# Altium footprint library SG__PCB_Unsorted.PcbLib: 113 footprints (part 6 of 8)
Each footprint in its own frame and in the unit in brackets; x right, y up, seen from the top. Pads: shape width x height; smd on the part's side, far side on the other; paste and mask are expansions set on the pad; w line width, h text height; cw(c..) or ccw(c..) is an arc to the next point about the centre after c.
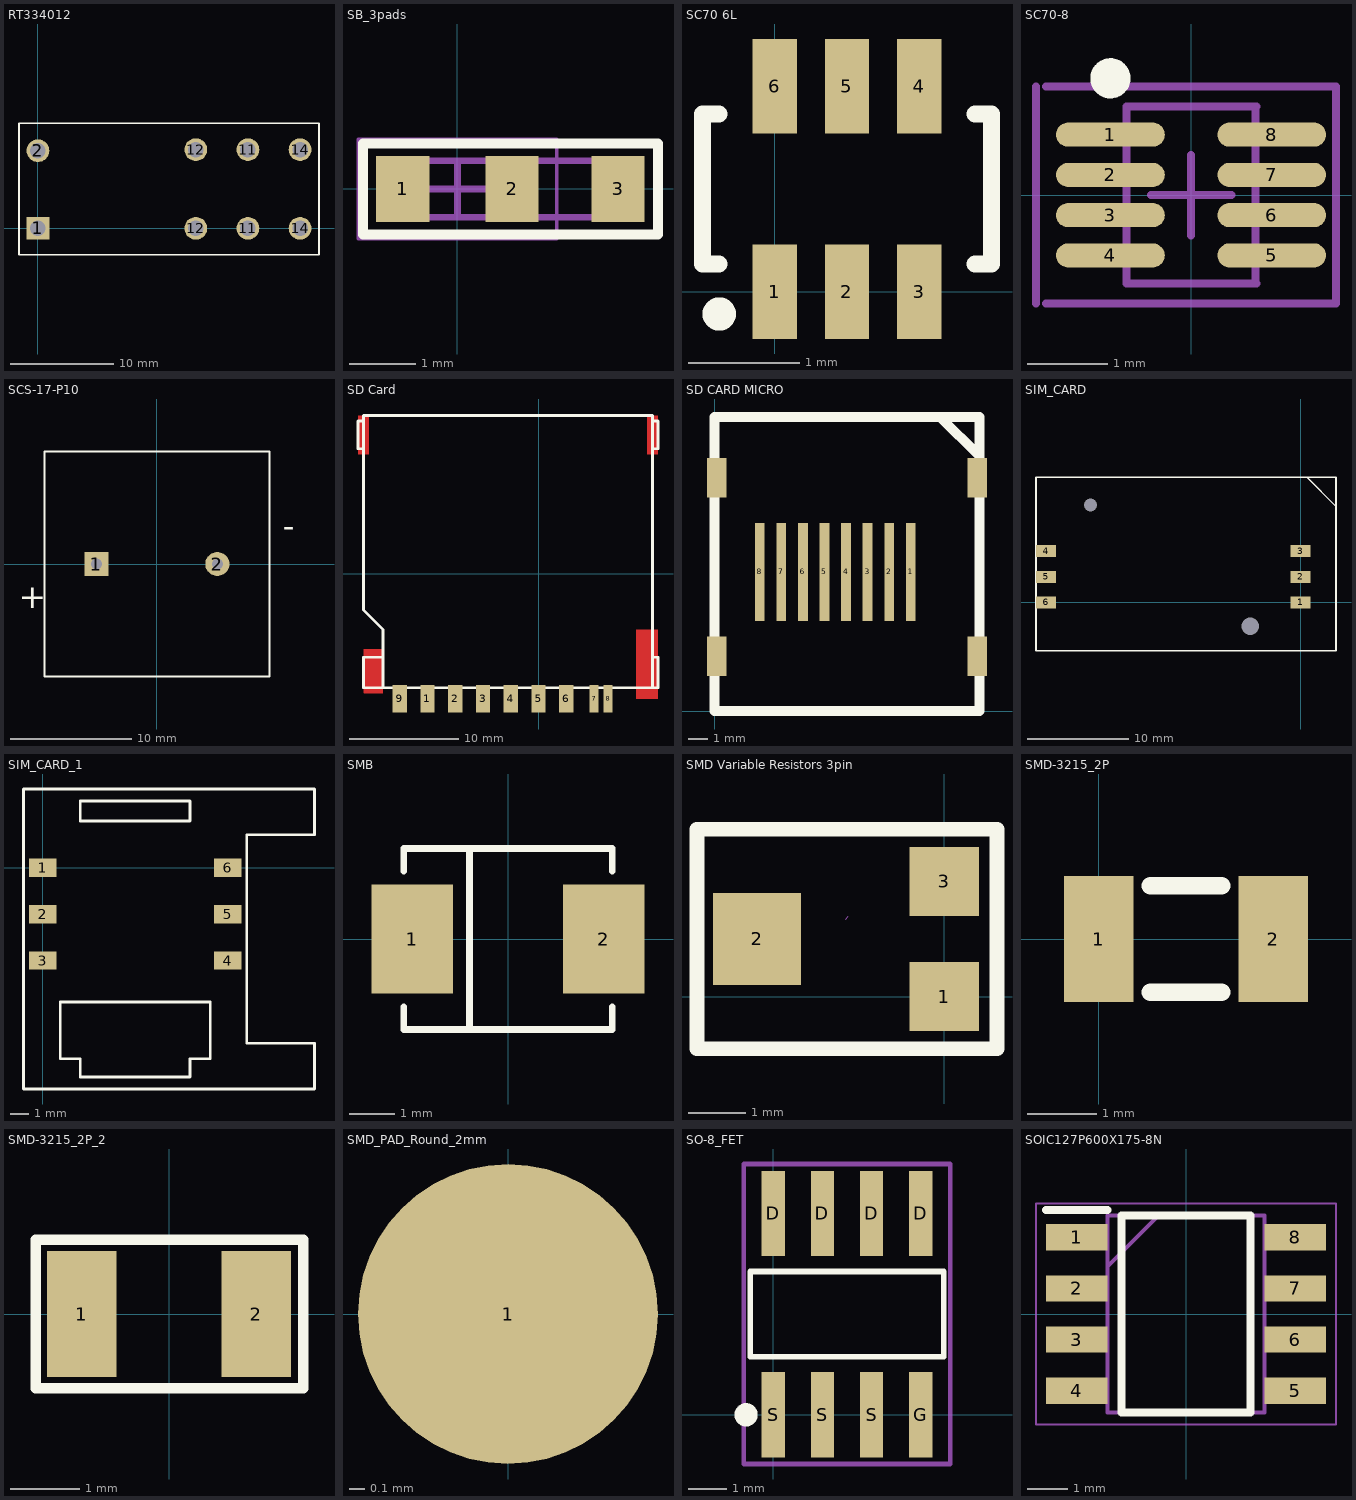
[diagram p5: the footprints below, top view; thin cyan lines are the x and y axes]

## RT334012 [mm]
pads (8):
  rect 2.2x2.2 hole 1.5 mask+0.05: 1(0,0)
  round 2.2 hole 1.5 mask+0.05: 2(0,7.5) 11(20.3,0) 11(20.3,7.6) 12(15.26,0) 12(15.26,7.6) 14(25.34,0) 14(25.34,7.6)
Top Overlay:
  lines w0.15: -1.83,-2.55 27.17,-2.55 27.17,10.15 -1.83,10.15 -1.83,-2.55

## SB_3pads [mm] "SMD Switch on 3 pads"
height 0.01
pads (3):
  rect 0.8x1 smd: 1(-0.825,0) 2(0.825,0) 3(2.425,0)
Top Overlay:
  lines w0.152: -1.422,-0.686 3.025,-0.686 3.025,0.686 -1.422,0.686 -1.422,-0.686
Assembly Top:
  lines w0.1: 0.8,-0.425 0.8,0.425 ; 2.425,-0.425 -0.8,-0.425 -0.8,0.425 2.425,0.425
Courtyard Top:
  lines w0.05: -1.5,-0.75 1.5,-0.75 1.5,0.75 -1.5,0.75 -1.5,-0.75
  lines w0.1: -0.425,0 0.425,0 ; 0,-0.425 0,0.425
3D body "CAPC1608X09N.step": height 0.9, standoff 0, extent -0.8,-0.425 0.8,0.425

## SC70 6L [mm]
pads (6):
  rect 0.4x0.85 smd mask+0.05: 1(0,0) 2(0.65,0) 3(1.3,0) 4(1.3,1.85) 5(0.65,1.85) 6(0,1.85)
Top Overlay:
  circle w0.2: c-0.5,-0.2 r0.05
  lines w0.15: -0.5,0.25 -0.65,0.25 -0.65,1.6 -0.5,1.6 ; 1.8,0.25 1.95,0.25 1.95,1.6 1.8,1.6

## SC70-8 [mm]
height 1
pads (8):
  oval 1.35x0.3 smd: 1(-1.002,0.75) 2(-1.002,0.25) 3(-1.002,-0.25) 4(-1.002,-0.75) 5(1.002,-0.75) 6(1.002,-0.25) 7(1.002,0.25) 8(1.002,0.75)
Top Overlay:
  circle w0.25: c-1.002,1.45 r0.125
Mechanical 13:
  lines w0.1: -0.802,-1.1 -0.802,1.1 ; -0.787,-1.1 0.813,-1.1 ; -0.787,1.1 0.813,1.1 ; 0.802,-1.1 0.802,1.1
Mechanical 15:
  lines w0.1: -1.927,-1.35 -1.927,1.35 ; -1.8,-1.35 1.8,-1.35 1.8,1.35 -1.8,1.35 ; -0.5,0 0.5,0 ; 0,-0.5 0,0.5
3D body: height 1, standoff 0.05, extent -0.675,-1.1 0.675,1.1

## SCS-17-P10 [mm]
pads (2):
  rect 2x2 hole 0.9 mask+0.05: 1(-5,0)
  round 2 hole 0.9 mask+0.05: 2(5,0)
Top Overlay:
  lines w0.15: -9.3,-9.3 -9.3,9.3 9.3,9.3 9.3,-9.3 -9.3,-9.3
  text "+" at -11.4,-3.65 h2
  text "-" at 11.4,3.65 h2

## SD Card [mm]
pads (9):
  rect 1.3x2.5 smd: 1(-10.16,-11.43) 2(-7.62,-11.43) 3(-5.08,-11.43) 4(-2.54,-11.43) 5(0,-11.43) 6(2.54,-11.43) 9(-12.7,-11.43)
  rect 0.8x2.5 smd: 7(5.08,-11.43) 8(6.35,-11.43)
Top Layer:
  rectangle: -16.002,-10.922 -14.224,-6.858
  rectangle: -16.51,10.922 -15.494,14.478
  rectangle: 9.906,10.922 10.922,14.478
  rectangle: 8.89,-11.43 10.922,-5.08
Top Overlay:
  lines w0.254: -16.002,11.43 -16.51,11.43 -16.51,13.716 -16.51,13.97 -16.256,13.97 -16.002,13.97 ; -14.224,-7.62 -16.002,-7.62 -16.002,-10.414 -14.224,-10.414 ; 10.414,-7.62 10.922,-7.62 10.922,-10.414 10.414,-10.414 ; 10.414,11.43 10.922,11.43 10.922,13.97 10.414,13.97 ; -14.224,-10.414 10.414,-10.414 ; -14.224,-10.414 -14.224,-5.08 -16.002,-3.302 -16.002,14.478 10.414,14.478 10.414,-10.414
3D body "SD_slot.stp": height 3, standoff -1, extent -16.594,-11.938 11.006,14.562

## SD CARD MICRO [mm]
height 0.2
pads (12):
  rect 0.5x5 smd: 1(10,7.1) 2(8.9,7.1) 3(7.8,7.1) 4(6.7,7.1) 5(5.6,7.1) 6(4.5,7.1) 7(3.4,7.1) 8(2.3,7.1)
  rect 1x2 smd: ""(0.1,2.8) ""(0.1,11.9) ""(13.4,2.8) ""(13.4,11.9)
Top Overlay:
  lines w0.5: 11.5,15 13.5,13 ; 0,0 0,15 13.5,15 13.5,0 0,0
3D body: height 2, standoff 0.2, extent 0,0 13.5,15

## SIM_CARD [mm]
pads (8):
  round 0 hole 1.3: 0(-20.8,9.65)
  round 0 hole 1.75: 0(-5,-2.35)
  rect 2x1.2 smd mask+0.05: 1(0,0) 2(0,2.54) 3(0,5.08) 4(-25.2,5.08) 5(-25.2,2.54) 6(-25.2,0)
Top Overlay:
  lines w0.15: 0.6,12.41 3.5,9.51 3.5,9.5 ; -26.2,-4.79 3.5,-4.79 3.5,3.81 3.5,12.41 -26.2,12.41 -26.2,3.81 -26.2,-4.79

## SIM_CARD_1 [mm]
pads (6):
  rect 1.5x1 smd mask+0.05: 1(0,0) 2(0,-2.54) 3(0,-5.08) 4(10.1,-5.08) 5(10.1,-2.54) 6(10.1,0)
Top Overlay:
  lines w0.15: -1.05,-12.1 -1.05,4.3 14.85,4.3 14.85,1.8 11.15,1.8 11.15,-9.6 14.85,-9.6 14.85,-12.1 -1.05,-12.1 ; 0.95,-10.45 2.05,-10.45 2.05,-11.45 8.05,-11.45 8.05,-10.45 9.15,-10.45 9.15,-7.35 0.95,-7.35 0.95,-10.45 ; 2.05,2.55 2.05,3.65 8.05,3.65 8.05,2.55 2.05,2.55

## SMB [mm]
height 1.3
pads (2):
  rect 1.8x2.4 smd mask+0.05: 1(-2.11,0) 2(2.11,0)
Top Overlay:
  lines w0.15: -2.3,-1.5 -2.3,-2 2.3,-2 2.3,-1.5 ; -2.3,1.5 -2.3,2 2.3,2 2.3,1.5 ; -0.85,-2 -0.85,2
3D body "SMB.STEP": height 2.3, standoff 0, extent -2.7,-1.8 2.7,1.8

## SMD Variable Resistors 3pin [mm]
height 2
pads (3):
  rect 1.2x1.2 smd: 1(0,0) 3(0,2)
  rect 1.524x1.6 smd: 2(-3.25,1)
Top Overlay:
  lines w0.254: -4.292,-0.905 -4.292,-0.016 -4.292,2.905 0.915,2.905 0.915,-0.905 -4.292,-0.905
Mechanical 15:
  lines w0.003: -1.714,1.343 -1.663,1.393

## SMD-3215_2P [mm] "SMD CRYSTAL RESONATORS 32.768KHZ"
height 1
pads (2):
  rect 1x1.8 smd: 1(0,0) 2(2.5,0)
Top Overlay:
  lines w0.254: 0.742,-0.762 1.758,-0.762 ; 0.742,0.762 1.758,0.762

## SMD-3215_2P_2 [mm] "SMD CRYSTAL RESONATORS 32.768KHZ"
height 1
pads (2):
  rect 1x1.8 smd: 1(-1.25,0) 2(1.25,0)
Top Overlay:
  lines w0.152: -1.91,-1.067 -0.869,-1.067 1.925,-1.067 1.925,1.067 -1.91,1.067 -1.91,-1.067

## SMD_PAD_Round_2mm [mm]
pads (1):
  round 2 smd: 1(0,0)
3D body: height 0.1, standoff 0, extent -1,-1 1,1

## SO-8_FET [mm] "Small Outline; 8 Leads; Body Width 3.9 mm; Pitch 1.27 mm"
height 1.75
pads (8):
  rect 0.6x2.2 smd mask+0.05: D(0,5.2) D(1.27,5.2) D(2.54,5.2) D(3.81,5.2) G(3.81,0) S(0,0) S(1.27,0) S(2.54,0)
Top Overlay:
  circle w0.3: c-0.7,0 r0.15
  lines w0.15: -0.595,1.5 -0.595,3.7 4.405,3.7 4.405,1.5 -0.595,1.5
Mechanical 15:
  lines w0.127: -0.762,-1.27 -0.762,6.477 4.572,6.477 4.572,-1.27 -0.762,-1.27
3D body "so8.stp": height 1.73, standoff -0.04, extent -0.545,-0.468 4.345,5.668

## SOIC127P600X175-8N [mm]
pads (8):
  rect 1.525x0.65 smd: 1(-2.712,1.905) 2(-2.712,0.635) 3(-2.712,-0.635) 4(-2.712,-1.905) 5(2.712,-1.905) 6(2.712,-0.635) 7(2.712,0.635) 8(2.712,1.905)
Top Overlay:
  lines w0.2: -3.475,2.58 -1.95,2.58 ; -1.6,-2.45 1.6,-2.45 1.6,2.45 -1.6,2.45 -1.6,-2.45
Mechanical 13:
  lines w0.1: -1.95,1.18 -0.68,2.45 ; -1.95,-2.45 1.95,-2.45 1.95,2.45 -1.95,2.45 -1.95,-2.45
Mechanical 15:
  lines w0.05: -3.725,-2.75 3.725,-2.75 3.725,2.75 -3.725,2.75 -3.725,-2.75
3D body "NE555DR.stp": height 1.75, standoff 0, extent -3,-2.45 3,2.45